# Altium footprint library FibOPT_SM.PcbLib: 1 footprints
Each footprint in its own frame and in the unit in brackets; x right, y up, seen from the top. Pads: shape width x height; smd on the part's side, far side on the other; paste and mask are expansions set on the pad; w line width, h text height; cw(c..) or ccw(c..) is an arc to the next point about the centre after c.
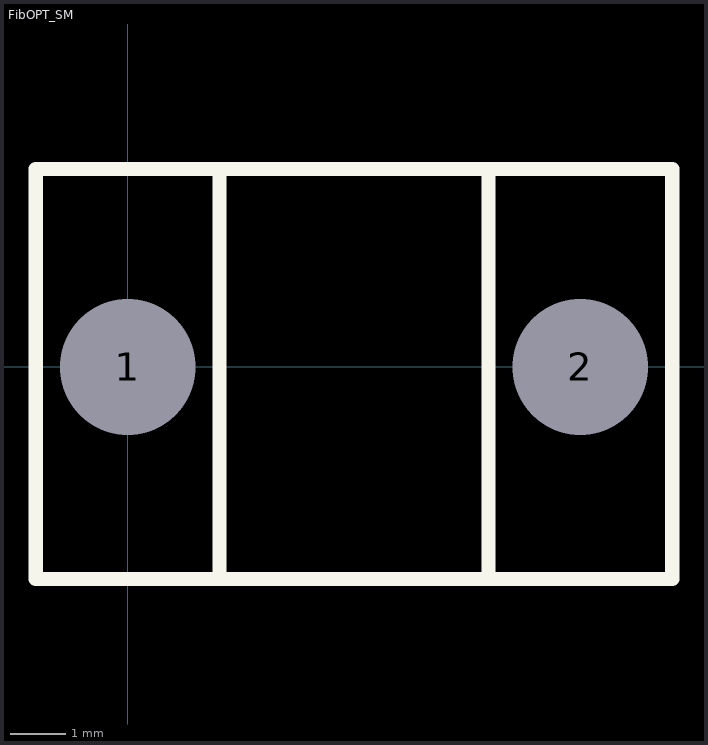
[diagram p0: the footprint, top view; thin cyan lines are the x and y axes]

## FibOPT_SM [mil]
pads (2):
  round 80 hole 96: 1(0,0) 2(320,0)
Top Overlay:
  lines w10: 65,-150 65,140 ; 255,-150 255,140 ; -65,-150 385,-150 385,140 -65,140 -65,-150
3D body: height 342.52, standoff -133.86, extent -56.53,-142.79 376.53,132.8